# EAGLE library part 74099-16 (library con-molex-c-grid)
C-Grid SL
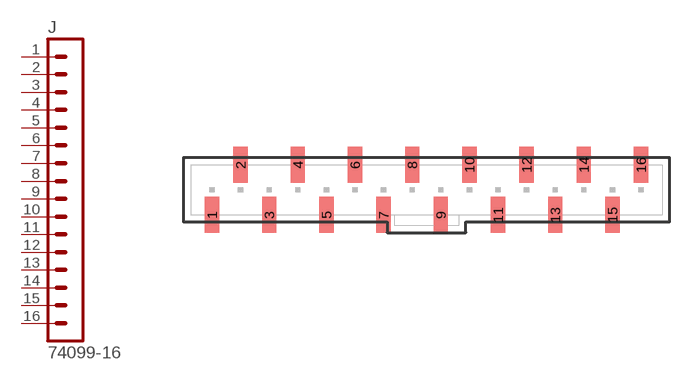
[diagram p50: symbol with the pads of 74099-16; footprint 74099-16]

Designator prefix J

## 74099-16  [74099-16]
1  1  pas
2  2  pas
3  3  pas
4  4  pas
5  5  pas
6  6  pas
7  7  pas
8  8  pas
9  9  pas
10  10  pas
11  11  pas
12  12  pas
13  13  pas
14  14  pas
15  15  pas
16  16  pas

## Footprint 74099-16 (pad centres in mm)
C-Grid SL vertical, SMD
smd 1.27 x 3.175: 1 -19.05,-2.223; 2 -16.51,2.223; 3 -13.97,-2.223; 4 -11.43,2.223; 5 -8.89,-2.223; 6 -6.35,2.223; 7 -3.81,-2.223; 8 -1.27,2.223; 9 1.27,-2.223; 10 3.81,2.223; 11 6.35,-2.223; 12 8.89,2.223; 13 11.43,-2.223; 14 13.97,2.223; 15 16.51,-2.223; 16 19.05,2.223